# EAGLE library part 691402910005 (library Wuerth_Elektronik_eiCan_Terminal_Blocks_v2.0)
WR-TBL Serie 4029 - 2.54mm Screwless Horizontal Entry - 0.5mm2 Wires, 5 Pins
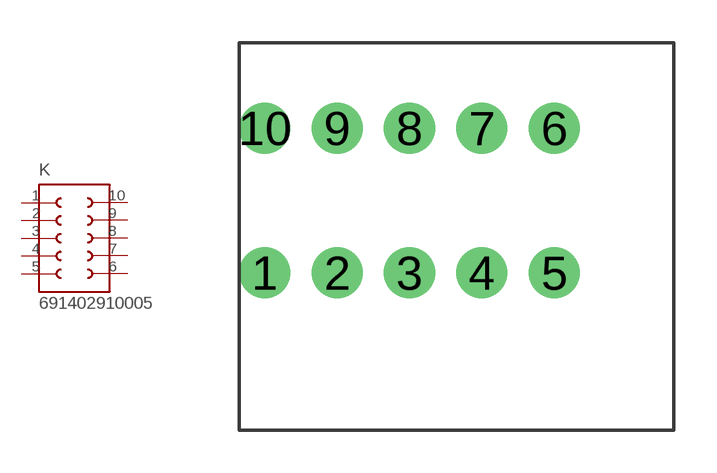
[diagram p205: symbol with the pads of 691402910005; footprint 691402910005]

Designator prefix K

## 691402910005  [691402910005]
1  1  pas
2  2  pas
3  3  pas
4  4  pas
5  5  pas
6  6  pas
7  7  pas
8  8  pas
9  9  pas
10  10  pas

## Footprint 691402910005 (pad centres in mm)
WR-TBL Serie 4029 - 2.54mm Screwless Horizontal Entry - 0.5mm2 Wires, 5 Pins
drill 1.2 round: 1 0,0; 2 2.54,0; 3 5.08,0; 4 7.62,0; 5 10.16,0; 6 10.16,5.08; 7 7.62,5.08; 8 5.08,5.08; 9 2.54,5.08; 10 0,5.08